# EAGLE library part MAX7315ATET (library MAX7315ATET)
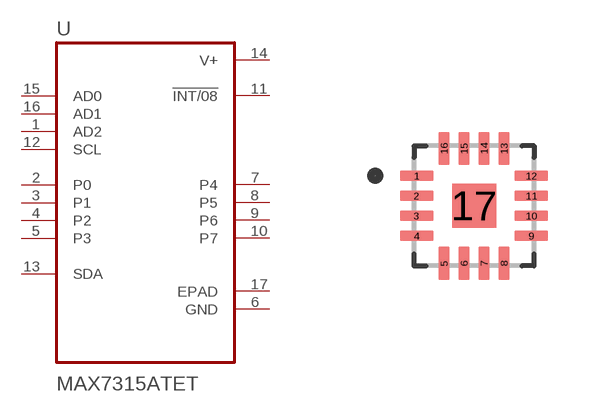
[diagram p0: symbol with the pads of QFN50P300X300X80-17N; footprint QFN50P300X300X80-17N]

Designator prefix U

## MAX7315ATET (Description: Interface IC - I/O extensions Maxim Integrated MAX7315ATE+ PWM I²C, SMBus 400 kHz TQFN 16 EP; Digi-Key_Part_Number: MAX7315ATE+-ND; Digi-Key_Purchase_URL: https://www.digikey.com/product-detail/en/maxim-integrated/MAX7315ATE-/MAX7315ATE--ND/1513522?utm_source=snapeda&utm_medium=aggregator&utm_campaign=symbol; MF: Maxim Integrated; MP: MAX7315ATE+; Package: TQFN-16 Maxim)  [QFN50P300X300X80-17N]
1  AD2  in
2  P0
3  P1
4  P2
5  P3
6  GND  pwr
7  P4
8  P5
9  P6
10  P7
11  !INT/08  out
12  SCL  in
13  SDA
14  V+  pwr
15  AD0  in
16  AD1  in
17  EPAD  pwr

## Footprint QFN50P300X300X80-17N (pad centres in mm)
smd 0.84 x 0.27: 1 -1.435,0.75; 2 -1.435,0.25; 3 -1.435,-0.25; 4 -1.435,-0.75; 9 1.435,-0.75; 10 1.435,-0.25; 11 1.435,0.25; 12 1.435,0.75
smd 0.27 x 0.84: 5 -0.75,-1.435; 6 -0.25,-1.435; 7 0.25,-1.435; 8 0.75,-1.435; 13 0.75,1.435; 14 0.25,1.435; 15 -0.25,1.435; 16 -0.75,1.435
smd 1.1 x 1.1: 17 0,0